# EAGLE library part DS1337 (library IC)
http://search.digikey.com/scripts/DkSearch/dksus.dll?Detail&name=DS1337S%2B-ND
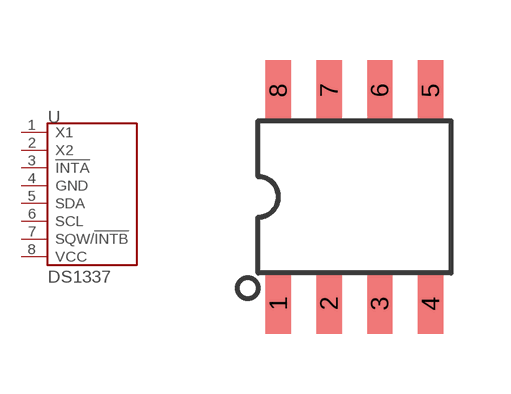
[diagram p46: symbol with the pads of SOP8; footprint SOP8]

Designator prefix U

## DS1337-SOP8  [SOP8]
1  X1
2  X2
3  !INTA
4  GND
5  SDA
6  SCL
7  SQW/!INTB
8  VCC

## Footprint SOP8 (pad centres in mm)
SMALL OUTLINE PACKAGE
smd 0.635 x 1.524: 1 -1.905,-2.667; 2 -0.635,-2.667; 3 0.635,-2.667; 4 1.905,-2.667; 5 1.905,2.667; 6 0.635,2.667; 7 -0.635,2.667; 8 -1.905,2.667